# EAGLE library part M7_NOSILK (library kalshagar)
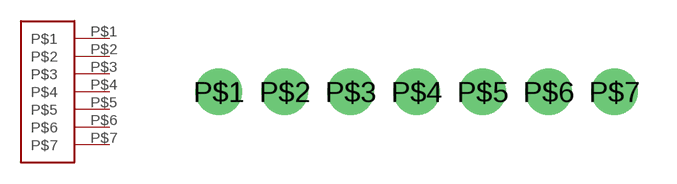
[diagram p5: symbol with the pads of M7_NOSILK; footprint M7_NOSILK]

Designator prefix -

## M7_NOSILK  [M7_NOSILK]
P$1  P$1
P$2  P$2
P$3  P$3
P$4  P$4
P$5  P$5
P$6  P$6
P$7  P$7

## Footprint M7_NOSILK (pad centres in mm)
drill 0.9 pad 1.778: P$1 0,0; P$2 2.54,0; P$3 5.08,0; P$4 7.62,0; P$5 10.16,0; P$6 12.7,0; P$7 15.24,0